# Altium footprint library SAMTEC_SSW-120-01-F-D.PcbLib: 1 footprints
Each footprint in its own frame and in the unit in brackets; x right, y up, seen from the top. Pads: shape width x height; smd on the part's side, far side on the other; paste and mask are expansions set on the pad; w line width, h text height; cw(c..) or ccw(c..) is an arc to the next point about the centre after c.
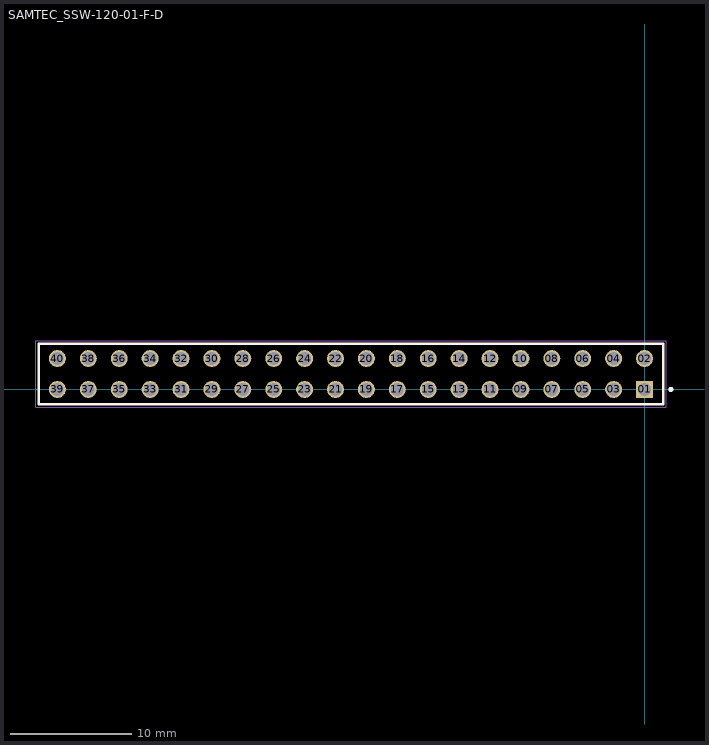
[diagram p0: the footprint, top view; thin cyan lines are the x and y axes]

## SAMTEC_SSW-120-01-F-D [mm]
pads (40):
  rect 1.39x1.39 hole 1.04: 01(0,0)
  round 1.39 hole 1.04: 02(0,2.54) 03(-2.54,0) 04(-2.54,2.54) 05(-5.08,0) 06(-5.08,2.54) 07(-7.62,0) 08(-7.62,2.54) 09(-10.16,0) 10(-10.16,2.54) 11(-12.7,0) 12(-12.7,2.54) 13(-15.24,0) 14(-15.24,2.54) 15(-17.78,0) 16(-17.78,2.54) 17(-20.32,0) 18(-20.32,2.54) 19(-22.86,0) 20(-22.86,2.54) 21(-25.4,0) 22(-25.4,2.54) 23(-27.94,0) 24(-27.94,2.54) 25(-30.48,0) 26(-30.48,2.54) 27(-33.02,0) 28(-33.02,2.54) 29(-35.56,0) 30(-35.56,2.54) 31(-38.1,0) 32(-38.1,2.54) 33(-40.64,0) 34(-40.64,2.54) 35(-43.18,0) 36(-43.18,2.54) 37(-45.72,0) 38(-45.72,2.54) 39(-48.26,0) 40(-48.26,2.54)
Top Overlay:
  circle w0.2: c2.175,0 r0.1
  lines w0.2: -49.785,-1.206 -49.785,3.746 1.525,3.746 1.525,-1.206 -49.785,-1.206
Mechanical 13:
  circle w0.2: c2.175,0 r0.1
  lines w0.1: -49.785,-1.206 -49.785,3.746 ; -49.785,-1.206 1.525,-1.206 ; -49.785,-1.206 -49.785,3.746 ; -49.785,3.746 1.525,3.746 ; -49.785,3.746 1.525,3.746 ; 1.525,-1.206 1.525,3.746 ; 1.525,-1.206 1.525,3.746
Mechanical 15:
  lines w0.05: -50.035,-1.456 -50.035,3.996 1.775,3.996 1.775,-1.456 -50.035,-1.456